# EAGLE library part CY7C68013A-56QFNLFXC (library ds_ic_mcu)
EZ-USB FX2LP USB Microcontroller High-Speed USB Peripheral Controller
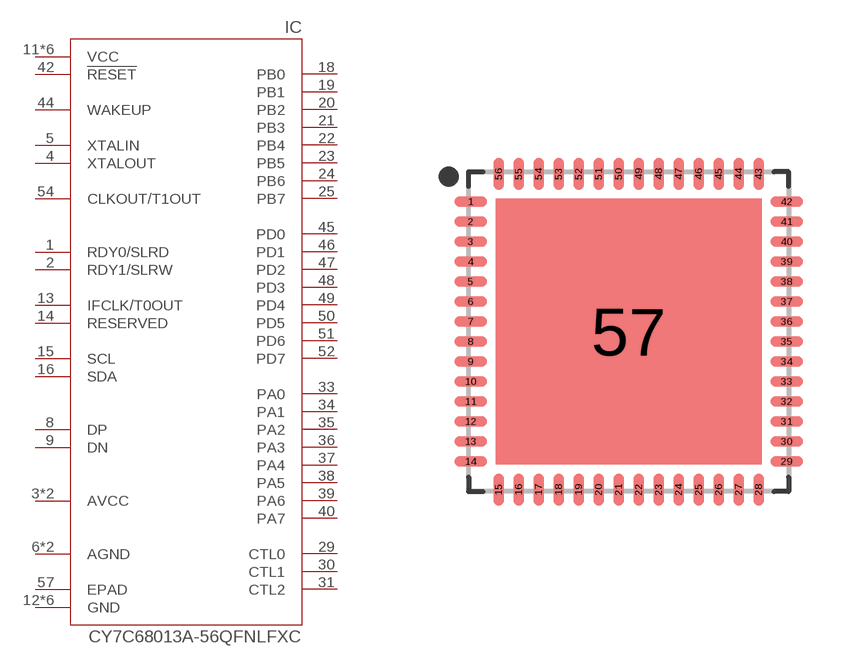
[diagram p16: symbol with the pads of QFN50P800X800X100-57T665; footprint QFN50P800X800X100-57T665]

Designator prefix IC

## CY7C68013A-56QFNLFXC  [QFN50P800X800X100-57T665]
1  RDY0/SLRD
2  RDY1/SLRW
3  AVCC  pwr
4  XTALOUT  out
5  XTALIN  in
6  AGND  pwr
7  AVCC  pwr
8  DP
9  DN
10  AGND  pwr
11  VCC  pwr
12  GND  pwr
13  IFCLK/T0OUT
14  RESERVED
15  SCL
16  SDA
17  VCC  pwr
18  PB0
19  PB1
20  PB2
21  PB3
22  PB4
23  PB5
24  PB6
25  PB7
26  GND  pwr
27  VCC  pwr
28  GND  pwr
29  CTL0
30  CTL1
31  CTL2
32  VCC  pwr
33  PA0
34  PA1
35  PA2
36  PA3
37  PA4
38  PA5
39  PA6
40  PA7
41  GND  pwr
42  !RESET  in
43  VCC  pwr
44  WAKEUP  in
45  PD0
46  PD1
47  PD2
48  PD3
49  PD4
50  PD5
51  PD6
52  PD7
53  GND  pwr
54  CLKOUT/T1OUT
55  VCC  pwr
56  GND  pwr
57  EPAD  pwr

## Footprint QFN50P800X800X100-57T665 (pad centres in mm)
56-QFN, 0.50 mm pitch, 8.00 X 8.00 X 1.00 mm body, 6.65 X 6.65 mm thermal pad 56-pin QFN package with 0.50 mm pitch with body size 8.00 X 8.00 X 1.00 mm and thermal pad size 6.65 X 6.65 mm
smd 0.811 x 0.264: 1 -3.951,3.25; 2 -3.951,2.75; 3 -3.951,2.25; 4 -3.951,1.75; 5 -3.951,1.25; 6 -3.951,0.75; 7 -3.951,0.25; 8 -3.951,-0.25; 9 -3.951,-0.75; 10 -3.951,-1.25; 11 -3.951,-1.75; 12 -3.951,-2.25; 13 -3.951,-2.75; 14 -3.951,-3.25; 29 3.951,-3.25; 30 3.951,-2.75; 31 3.951,-2.25; 32 3.951,-1.75; 33 3.951,-1.25; 34 3.951,-0.75; 35 3.951,-0.25; 36 3.951,0.25; 37 3.951,0.75; 38 3.951,1.25; 39 3.951,1.75; 40 3.951,2.25; 41 3.951,2.75; 42 3.951,3.25
smd 0.264 x 0.811: 15 -3.25,-3.951; 16 -2.75,-3.951; 17 -2.25,-3.951; 18 -1.75,-3.951; 19 -1.25,-3.951; 20 -0.75,-3.951; 21 -0.25,-3.951; 22 0.25,-3.951; 23 0.75,-3.951; 24 1.25,-3.951; 25 1.75,-3.951; 26 2.25,-3.951; 27 2.75,-3.951; 28 3.25,-3.951; 43 3.25,3.951; 44 2.75,3.951; 45 2.25,3.951; 46 1.75,3.951; 47 1.25,3.951; 48 0.75,3.951; 49 0.25,3.951; 50 -0.25,3.951; 51 -0.75,3.951; 52 -1.25,3.951; 53 -1.75,3.951; 54 -2.25,3.951; 55 -2.75,3.951; 56 -3.25,3.951
smd 6.65 x 6.65: 57 0,0